# EAGLE library part 74AHC125N (library 74AHC125N)
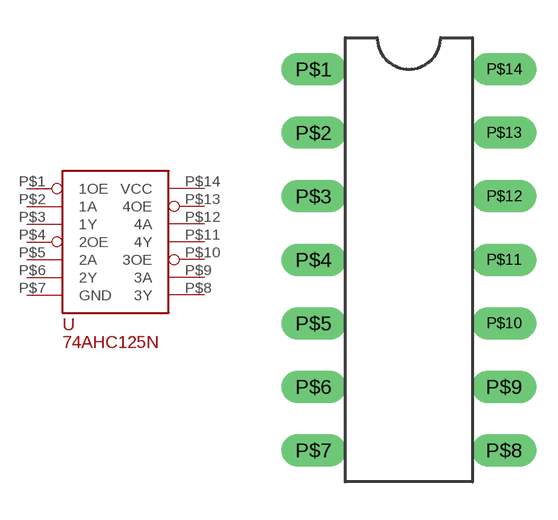
[diagram p0: symbol with the pads of DIP14; footprint DIP14]

Designator prefix -

## 74AHC125N  [DIP14]
P$1  1OE
P$2  1A
P$3  1Y
P$4  2OE
P$5  2A
P$6  2Y
P$7  GND
P$8  3Y
P$9  3A
P$10  3OE
P$11  4Y
P$12  4A
P$13  4OE
P$14  VCC

## Footprint DIP14 (pad centres in mm)
drill 0.8 long: P$1 0,7.62; P$2 0,5.08; P$3 0,2.54; P$4 0,0; P$5 0,-2.54; P$6 0,-5.08; P$7 0,-7.62; P$8 7.62,-7.62; P$9 7.62,-5.08; P$10 7.62,-2.54; P$11 7.62,0; P$12 7.62,2.54; P$13 7.62,5.08; P$14 7.62,7.62